# Altium schematic symbol library SCH - RELAY - DPDT - GENERIC.SCHLIB: 2 symbols
Pins are listed as number, name and electrical type; pins without a type are passive.

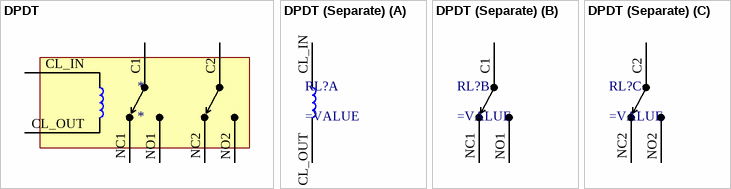
[diagram p0: symbols DPDT to DPDT (Separate)]

## DPDT
designator *
pins: C1 COM1, C2, CL_IN, CL_OUT, NC1, NC2, NO1, NO2

## DPDT (Separate)
designator RL?
part A pins: CL_IN, CL_OUT
part B pins: C1 COM1, NC1, NO1
part C pins: C2, NC2, NO2